# Altium footprint library TIDA-010086.PcbLib: 24 footprints (part 2 of 2)
Each footprint in its own frame and in the unit in brackets; x right, y up, seen from the top. Pads: shape width x height; smd on the part's side, far side on the other; paste and mask are expansions set on the pad; w line width, h text height; cw(c..) or ccw(c..) is an arc to the next point about the centre after c.
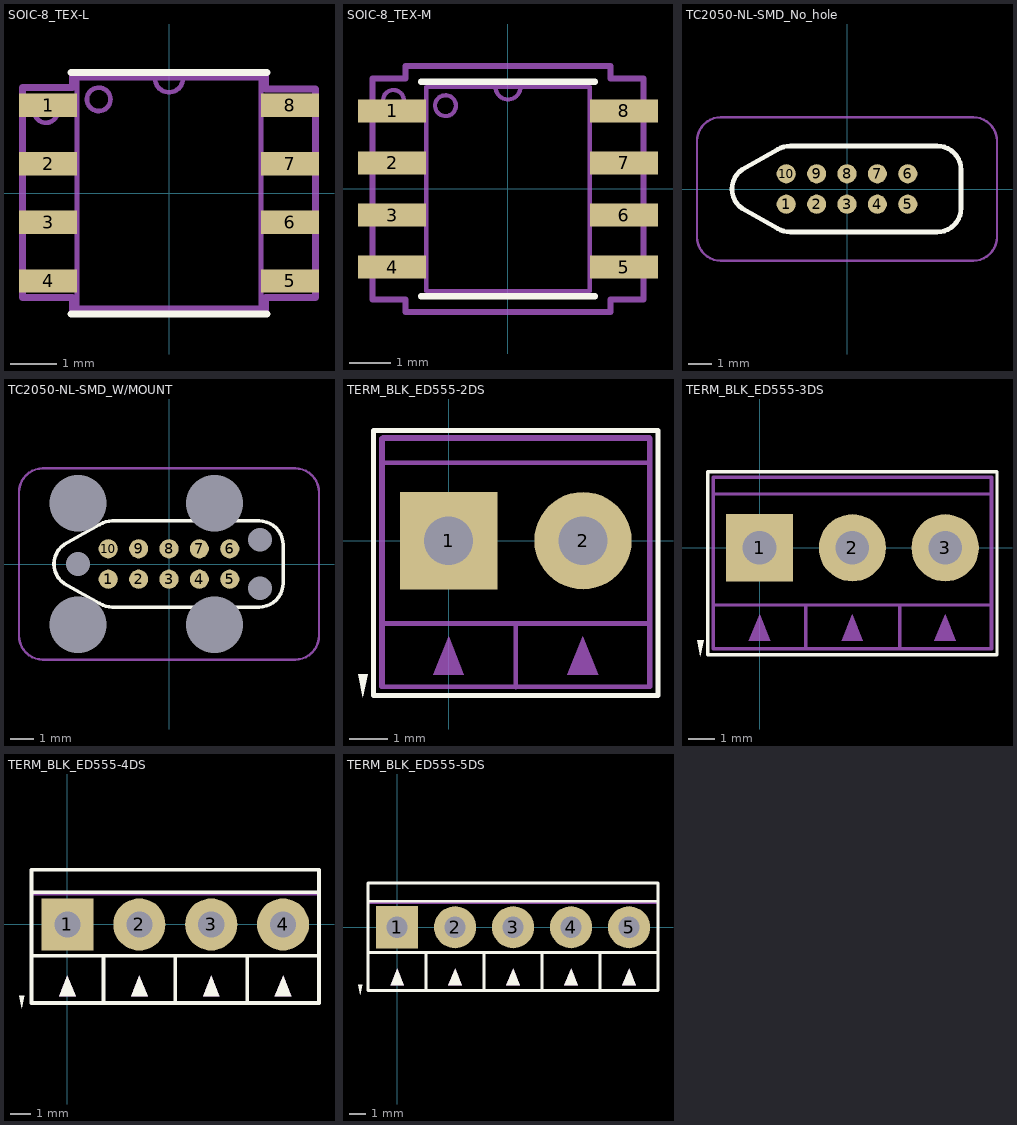
[diagram p1: the footprints below, top view; thin cyan lines are the x and y axes]

## SOIC-8_TEX-L [mil]
pads (8):
  rect 49.5x20 smd paste+0 mask+0: 1(-103.25,75) 2(-103.25,25) 3(-103.25,-25) 4(-103.25,-75) 5(103.25,-75) 6(103.25,-25) 7(103.25,25) 8(103.25,75)
Top Overlay:
  lines w6: -83.5,-103 83.5,-103 ; -83.5,103 83.5,103
  text "." at -115,110 h50
Mechanical 5:
  circle w4: c-105,70 r10
  lines w6: -125,-89 -82.5,-89 -82.5,-102 82.5,-102 82.5,-89 125,-89 125,89 82.5,89 82.5,102 -82.5,102 -82.5,90 -125,90 -125,-89
  text ".Designator" at -147.59,-9.84 h29.53
Mechanical 13:
  circle w4: c-60,80 r10
  lines w4: -78.5,-85 -78.5,-65 ; -78.5,-35 -78.5,-15 ; -78.5,15 -78.5,35 ; -78.5,65 -78.5,85 ; -12,98 ccw(c0,98) 12,98 ; 78.5,-85 78.5,-65 ; 78.5,-35 78.5,-15 ; 78.5,15 78.5,35 ; 78.5,65 78.5,85 ; -78.5,-98 -78.5,98 78.5,98 78.5,-98 -78.5,-98
3D body "D0008A.stp": height 64, standoff 0, extent -118.55,-96.49 118.56,96.51

## SOIC-8_TEX-M [mil]
pads (8):
  rect 65.5x22 smd paste+0 mask+0: 1(-111.25,75) 2(-111.25,25) 3(-111.25,-25) 4(-111.25,-75) 5(111.25,-75) 6(111.25,-25) 7(111.25,25) 8(111.25,75)
Top Overlay:
  lines w6: -83.5,-103 83.5,-103 ; -83.5,103 83.5,103
  text "." at -130,125 h50
Mechanical 5:
  circle w4: c-110,85 r10
  lines w6: -130,-106 -130,106 -98.5,106 -98.5,118 98.5,118 98.5,106 130,106 130,-106 98.5,-106 98.5,-118 -98.5,-118 -98.5,-106 -130,-106
  text ".Designator" at -147.59,-9.84 h29.53
Mechanical 13:
  circle w4: c-60,80 r10
  lines w4: -78.5,-85 -78.5,-65 ; -78.5,-35 -78.5,-15 ; -78.5,15 -78.5,35 ; -78.5,65 -78.5,85 ; -12,98 ccw(c0,98) 12,98 ; 78.5,-85 78.5,-65 ; 78.5,-35 78.5,-15 ; 78.5,15 78.5,35 ; 78.5,65 78.5,85 ; -78.5,-98 -78.5,98 78.5,98 78.5,-98 -78.5,-98
3D body "D0008A.stp": height 64, standoff 0, extent -118.55,-96.49 118.56,96.51

## TC2050-NL-SMD_No_hole [mm]
pads (10):
  round 0.8 smd paste-10: 1(-2.54,-0.635) 2(-1.27,-0.635) 3(0,-0.635) 4(1.27,-0.635) 5(2.54,-0.635) 6(2.54,0.635) 7(1.27,0.635) 8(0,0.635) 9(-1.27,0.635) 10(-2.54,0.635)
Top Overlay:
  lines w0.2: -4.381,-0.816 cw(c-3.814,0) -4.381,0.816 -2.9,1.648 cw(c-2.37,0.8) -2.37,1.8 3.77,1.8 cw(c3.77,0.8) 4.77,0.8 4.77,-0.8 cw(c3.77,-0.8) 3.77,-1.8 -2.37,-1.8 cw(c-2.37,-0.8) -2.9,-1.648 -4.381,-0.816
Top Courtyard:
  lines w0.1: -6.27,-2 ccw(c-5.27,-2) -5.27,-3 5.27,-3 ccw(c5.27,-2) 6.27,-2 6.27,2 ccw(c5.27,2) 5.27,3 -5.27,3 ccw(c-5.27,2) -6.27,2 -6.27,-2

## TC2050-NL-SMD_W/MOUNT [mm]
pads (17):
  round 0.8 smd paste-10 mask+0.102: 1(-2.54,-0.635) 2(-1.27,-0.635) 3(0,-0.635) 4(1.27,-0.635) 5(2.54,-0.635) 6(2.54,0.635) 7(1.27,0.635) 8(0,0.635) 9(-1.27,0.635) 10(-2.54,0.635)
  round 0 hole 2.375 mask+0: ""(-3.81,-2.54) ""(-3.81,2.54) ""(1.905,-2.54) ""(1.905,2.54)
  round 0 hole 1 mask+0: ""(-3.81,0) ""(3.81,-1.015) ""(3.81,1.015)
Top Overlay:
  lines w0.15: -4.381,-0.816 cw(c-3.814,0) -4.381,0.816 -2.9,1.648 cw(c-2.37,0.8) -2.37,1.8 3.77,1.8 cw(c3.77,0.8) 4.77,0.8 4.77,-0.8 cw(c3.77,-0.8) 3.77,-1.8 -2.37,-1.8 cw(c-2.37,-0.8) -2.9,-1.648 -4.381,-0.816
Top Courtyard:
  lines w0.1: -6.27,-3 ccw(c-5.27,-3) -5.27,-4 5.27,-4 ccw(c5.27,-3) 6.27,-3 6.27,3 ccw(c5.27,3) 5.27,4 -5.27,4 ccw(c-5.27,3) -6.27,3 -6.27,-3

## TERM_BLK_ED555-2DS [mil]
pads (2):
  rect 100x100 hole 50: 1(0,0)
  round 100 hole 50: 2(138,0)
Top Overlay:
  region: -88,-161 -83,-137 -93,-137
  lines w5: -77,-159 -77,113 215,113 215,-159 -77,-159
Mechanical 5:
  region: 15.75,-137.8 -15.75,-137.8 0,-98.43
  region: 153.54,-137.8 122.05,-137.8 137.8,-98.43
  lines w5: -67.58,-150 206.43,-150 206.43,105.69 -67.58,105.69 -67.58,-150
  text ".Designator" at -77.59,45.16 h29.53
Mechanical 13:
  lines w5: -68.9,-85 206.69,-85 ; -68.9,80 206.69,80 ; 68.9,-150.2 68.9,-85 ; -68.9,-150 206.69,-150 206.69,105 -68.9,105 -68.9,-150
3D body "On-Shore_ED555_2DS.stp": height 323.43, standoff -137.2, extent -68.7,-149.61 206.89,106.29

## TERM_BLK_ED555-3DS [mil]
pads (3):
  rect 100x100 hole 50: 1(0,0)
  round 100 hole 50: 2(138,0) 3(276,0)
Top Overlay:
  region: -88,-161 -83,-137 -93,-137
  lines w5: -77,-159 215,-159 352.99,-159 352.99,113 -77,113 -77,-159
Mechanical 5:
  region: 153.54,-137.8 122.05,-137.8 137.8,-98.43
  region: 15.75,-137.8 -15.75,-137.8 0,-98.43
  region: 291.54,-137.8 260.05,-137.8 275.8,-98.43
  lines w5: -68.9,-150 345,-150 345,105 -68.9,105 -68.9,-150
  text ".Designator" at -17.59,45.16 h29.53
Mechanical 13:
  lines w5: -68.9,-85 208.66,-85 ; -68.9,80 343.15,80 ; 68.9,-150.2 68.9,-85 ; 344.15,-85 208.66,-85 ; 208.66,-150 208.66,-85 ; 208.66,-150 344.69,-150 344.69,105 -68.9,105 -68.9,-150 208.66,-150
3D body "On-Shore_ED555_2DS.stp": height 323.43, standoff -137.2, extent 69.29,-149.62 344.88,106.28
3D body "On-Shore_ED555_2DS.stp": height 323.43, standoff -137.2, extent -68.7,-149.61 206.89,106.29

## TERM_BLK_ED555-4DS [mm]
pads (4):
  rect 2.54x2.54 hole 1.27: 1(0,0)
  round 2.54 hole 1.27: 2(3.5,0) 3(7,0) 4(10.5,0)
Top Overlay:
  region: 10.9,-3.5 10.1,-3.5 10.5,-2.5
  region: 7.4,-3.5 6.6,-3.5 7,-2.5
  region: -2.235,-4.089 -2.108,-3.48 -2.362,-3.48
  region: 3.9,-3.5 3.1,-3.5 3.5,-2.5
  region: 0.4,-3.5 -0.4,-3.5 0,-2.5
  lines w0.178: -1.752,1.572 1.748,1.572 5.248,1.572 8.748,1.572 12.248,1.572 ; 1.75,-3.815 1.75,-1.528 ; 5.25,-3.815 5.25,-1.528 ; 5.25,-3.81 -1.75,-3.81 -1.75,2.667 5.25,2.667 ; 12.248,-3.828 8.748,-3.828 ; 12.248,-1.528 8.748,-1.528 ; 12.248,2.672 8.748,2.672 5.248,2.672 1.748,2.672 -1.752,2.672 -1.752,1.472 -1.752,-1.528 ; 12.25,-3.815 12.25,-1.528 12.25,1.472 12.25,2.672 ; -1.752,-1.528 -1.752,-3.828 1.748,-3.828 5.248,-3.828 8.748,-3.828 ; -1.752,-1.528 1.748,-1.528 5.248,-1.528 8.748,-1.528 ; 8.748,-3.828 8.748,-1.528 ; 8.748,-3.828 8.748,-1.528
Mechanical 5:
  region: 10.9,-3.5 10.1,-3.5 10.5,-2.5
  region: 3.9,-3.5 3.1,-3.5 3.5,-2.5
  region: 7.4,-3.5 6.6,-3.5 7,-2.5
  region: 0.4,-3.5 -0.4,-3.5 0,-2.5
  lines w0.127: -1.75,-3.81 12.235,-3.81 12.235,2.667 -1.75,2.667 -1.75,-3.81
  text ".Designator" at 1.839,1.528 h0.75
Mechanical 13:
  lines w0.127: 1.75,-3.815 1.75,-1.528 ; 5.25,-3.815 5.25,-1.528 ; 5.25,-3.81 -1.75,-3.81 -1.75,2.667 5.25,2.667 ; 8.75,-3.81 12.248,-3.81 ; 8.75,2.667 12.248,2.667 ; 12.248,-3.828 8.748,-3.828 ; 12.248,-1.528 8.748,-1.528 ; 12.248,1.472 8.748,1.472 5.248,1.472 1.748,1.472 -1.752,1.472 ; 12.248,2.672 8.748,2.672 5.248,2.672 1.748,2.672 -1.752,2.672 -1.752,1.472 ; 12.25,-3.815 12.25,-1.528 12.25,1.472 12.25,2.672 ; -1.752,-1.528 1.748,-1.528 5.248,-1.528 8.748,-1.528 ; -1.752,-1.528 -1.752,-3.828 1.748,-3.828 5.248,-3.828 8.748,-3.828 ; -1.752,-1.528 -1.752,1.472 ; 8.748,-3.828 8.748,-1.528
3D body "On-Shore_ED555_4DS.stp": height 8.2, standoff -3.5, extent -1.745,-3.8 12.255,2.7

## TERM_BLK_ED555-5DS [mm]
pads (5):
  rect 2.54x2.54 hole 1.27: 1(0,0)
  round 2.54 hole 1.27: 2(3.5,0) 3(7,0) 4(10.5,0) 5(14,0)
Top Overlay:
  region: 14.4,-3.5 13.6,-3.5 14,-2.5
  region: 7.4,-3.5 6.6,-3.5 7,-2.5
  region: 10.9,-3.5 10.1,-3.5 10.5,-2.5
  region: 3.9,-3.5 3.1,-3.5 3.5,-2.5
  region: -2.235,-4.089 -2.108,-3.48 -2.362,-3.48
  region: 0.4,-3.5 -0.4,-3.5 0,-2.5
  lines w0.178: -1.752,1.572 1.748,1.572 5.248,1.572 8.748,1.572 12.248,1.572 15.748,1.572 ; 1.75,-3.815 1.75,-1.528 ; 5.25,-3.815 5.25,-1.528 ; 5.25,-3.81 -1.75,-3.81 -1.75,2.667 5.25,2.667 ; 8.75,-3.81 15.75,-3.81 ; 8.75,2.667 15.75,2.667 ; 12.25,-3.815 12.25,-1.528 ; 15.748,-3.828 12.248,-3.828 8.748,-3.828 ; 15.748,-1.528 12.248,-1.528 8.748,-1.528 ; 15.748,2.672 12.248,2.672 8.748,2.672 5.248,2.672 1.748,2.672 -1.752,2.672 -1.752,1.472 -1.752,-1.528 ; 15.75,-3.815 15.75,-1.528 15.75,1.472 15.75,2.672 ; -1.752,-1.528 -1.752,-3.828 1.748,-3.828 5.248,-3.828 8.748,-3.828 ; -1.752,-1.528 1.748,-1.528 5.248,-1.528 8.748,-1.528 ; 8.748,-3.828 8.748,-1.528 ; 8.748,-3.828 8.748,-1.528
Mechanical 5:
  region: 14.4,-3.5 13.6,-3.5 14,-2.5
  region: 10.9,-3.5 10.1,-3.5 10.5,-2.5
  region: 7.4,-3.5 6.6,-3.5 7,-2.5
  region: 3.9,-3.5 3.1,-3.5 3.5,-2.5
  region: 0.4,-3.5 -0.4,-3.5 0,-2.5
  lines w0.127: -1.75,-3.81 -1.75,2.667 15.748,2.667 15.748,-3.81 -1.75,-3.81
  text ".Designator" at 3.998,1.528 h0.75
Mechanical 13:
  lines w0.127: 1.75,-3.815 1.75,-1.528 ; 5.25,-3.815 5.25,-1.528 ; 5.25,-3.81 -1.75,-3.81 -1.75,2.667 5.25,2.667 ; 8.75,-3.81 15.75,-3.81 ; 8.75,2.667 15.75,2.667 ; 12.25,-3.815 12.25,-1.528 ; 15.748,-3.828 12.248,-3.828 8.748,-3.828 ; 15.748,-1.528 12.248,-1.528 8.748,-1.528 ; 15.748,1.472 12.248,1.472 8.748,1.472 5.248,1.472 1.748,1.472 -1.752,1.472 ; 15.748,2.672 12.248,2.672 8.748,2.672 5.248,2.672 1.748,2.672 -1.752,2.672 -1.752,1.472 ; 15.75,-3.815 15.75,-1.528 15.75,1.472 15.75,2.672 ; -1.752,-1.528 -1.752,-3.828 1.748,-3.828 5.248,-3.828 8.748,-3.828 ; -1.752,-1.528 -1.752,1.472 ; -1.752,-1.528 1.748,-1.528 5.248,-1.528 8.748,-1.528 ; 8.748,-3.828 8.748,-1.528
3D body "On-Shore_ED555_5DS.stp": height 8.2, standoff -3.5, extent -1.745,-3.8 15.755,2.7